# Altium footprint library InductorBourns127x127.PcbLib: 1 footprints
Each footprint in its own frame and in the unit in brackets; x right, y up, seen from the top. Pads: shape width x height; smd on the part's side, far side on the other; paste and mask are expansions set on the pad; w line width, h text height; cw(c..) or ccw(c..) is an arc to the next point about the centre after c.
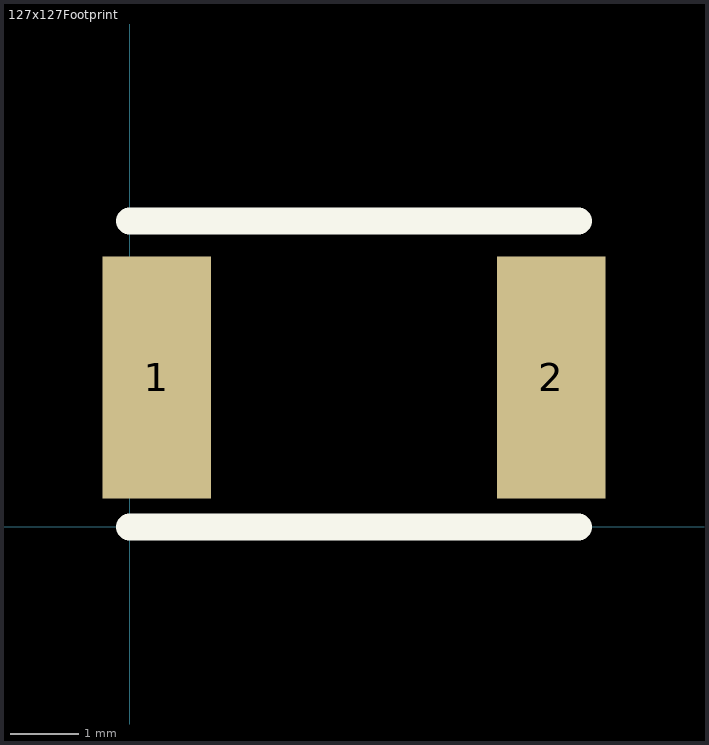
[diagram p0: the footprint, top view; thin cyan lines are the x and y axes]

## 127x127Footprint [mm]
pads (2):
  rect 1.6x3.56 smd: 1(0.4,2.2) 2(6.2,2.2)
Top Overlay:
  lines w0.4: 0,0 6.6,0 ; 0,4.5 6.6,4.5
3D body: height 2.92, standoff 0, extent -0.1,0 6.6,4.5